# Altium footprint library Gastroscopy-Tool.PcbLib: 10 footprints
Each footprint in its own frame and in the unit in brackets; x right, y up, seen from the top. Pads: shape width x height; smd on the part's side, far side on the other; paste and mask are expansions set on the pad; w line width, h text height; cw(c..) or ccw(c..) is an arc to the next point about the centre after c.
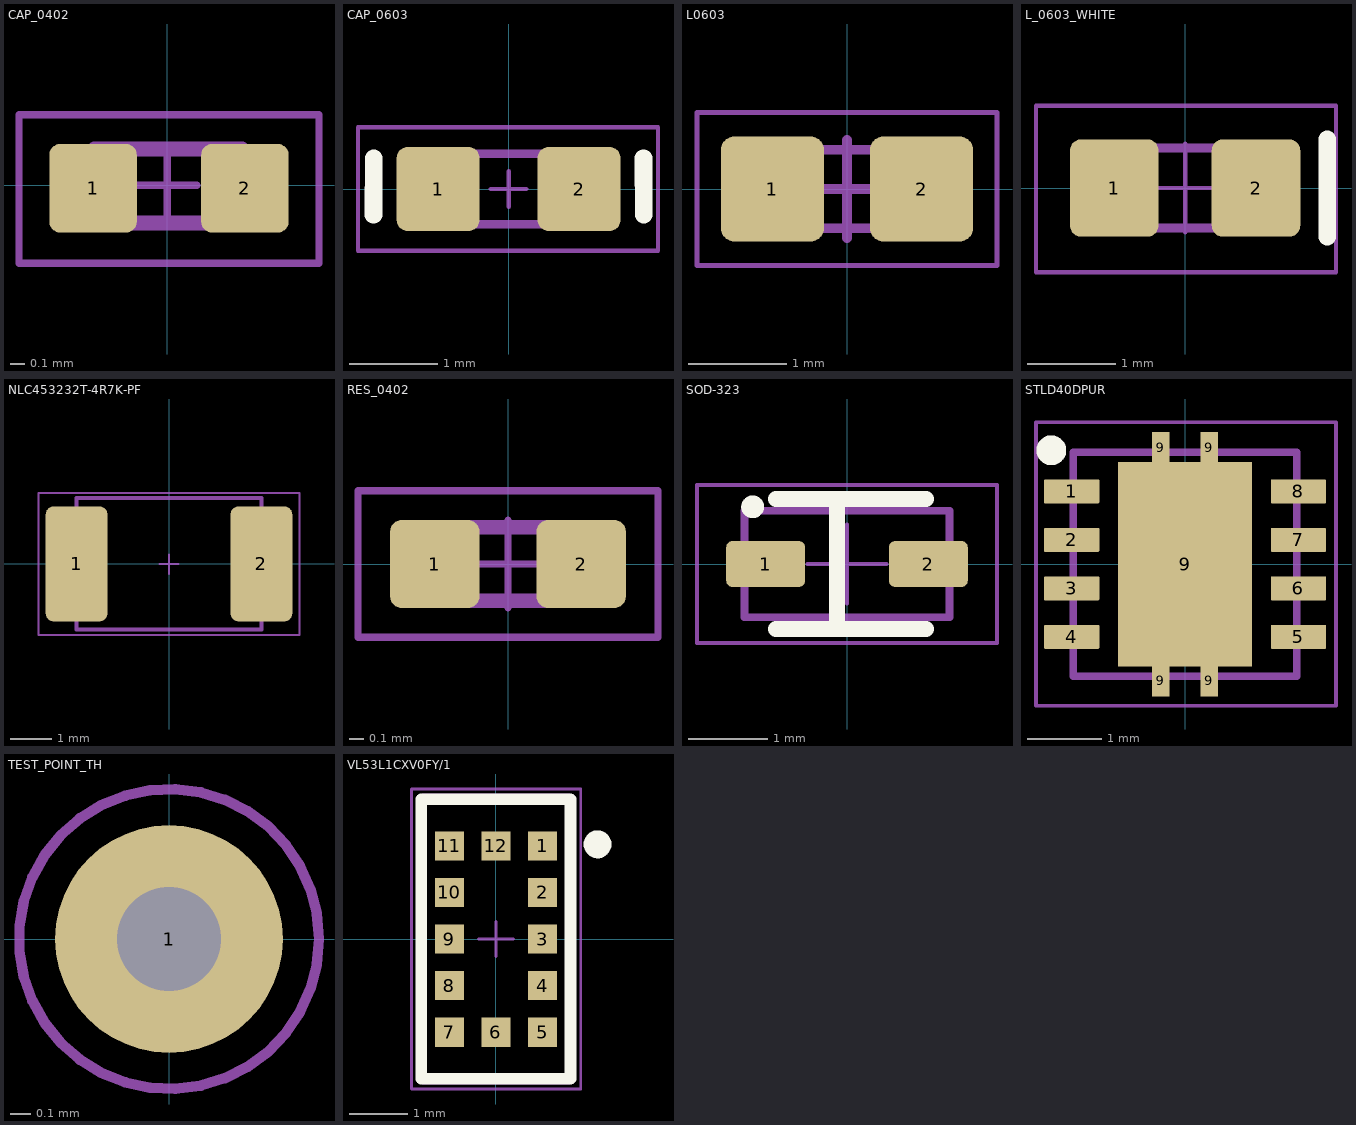
[diagram p0: the footprints below, top view; thin cyan lines are the x and y axes]

## CAP_0402 [mm]
pads (2):
  rrect25% 0.59x0.6 smd: 1(-0.5,-0.02) 2(0.525,-0.02)
Mechanical 13:
  lines w0.1: -0.49,-0.254 -0.49,0.246 0.506,0.246 0.506,-0.254 -0.49,-0.254
Mechanical 15:
  lines w0.05: -0.2,0 0.2,0 ; 0,-0.2 0,0.2 ; -1,-0.525 1.025,-0.525 1.025,0.475 -1,0.475 -1,-0.525
3D body "User Library-C0402-1.step": height 0.48, standoff -0.01, extent -0.49,-0.254 0.506,0.246

## CAP_0603 [mm] "Generic 0603 capacitor, IPC"
height 1
pads (2):
  rrect25% 0.94x0.95 smd: 1(-0.8,0) 2(0.8,0)
Top Overlay:
  lines w0.2: -1.534,-0.291 -1.532,0.351 ; 1.532,0.351 1.534,-0.291
Mechanical 13:
  lines w0.1: -0.8,-0.4 -0.8,0.4 0.8,0.4 0.8,-0.4 -0.8,-0.4
Mechanical 15:
  lines w0.05: -0.2,0 0.2,0 ; 0,-0.2 0,0.2 ; -1.709,-0.7 1.696,-0.7 1.696,0.7 -1.709,0.7 -1.709,-0.7
3D body "CAPC0603.STEP": height 0.9, standoff 0, extent -0.8,-0.4 0.8,0.4

## L0603 [mm]
height 0.8
pads (2):
  rrect25% 1.05x1.07 smd paste-5: 1(-0.76,0) 2(0.76,0)
Top Paste:
  region: 0.235,-0.405 0.445,0 0.235,0.405 0.235,0.431 0.255,0.479 0.291,0.515 0.339,0.535 0.365,0.535 1.155,0.535 1.181,0.535 1.229,0.515 1.265,0.479 1.285,0.431 1.285,0.405 1.285,-0.405 1.285,-0.431 1.265,-0.479 1.229,-0.515 1.181,-0.535 1.155,-0.535 0.365,-0.535 0.339,-0.535 0.291,-0.515 0.255,-0.479 0.235,-0.431
  region: -0.235,-0.405 -0.445,0 -0.235,0.405 -0.235,0.431 -0.255,0.479 -0.291,0.515 -0.339,0.535 -0.365,0.535 -1.155,0.535 -1.181,0.535 -1.229,0.515 -1.265,0.479 -1.285,0.431 -1.285,0.405 -1.285,-0.405 -1.285,-0.431 -1.265,-0.479 -1.229,-0.515 -1.181,-0.535 -1.155,-0.535 -0.365,-0.535 -0.339,-0.535 -0.291,-0.515 -0.255,-0.479 -0.235,-0.431
Mechanical 13:
  lines w0.1: -0.8,-0.4 -0.8,0.4 0.8,0.4 0.8,-0.4 -0.8,-0.4
Mechanical 15:
  lines w0.05: -1.53,-0.78 1.53,-0.78 1.53,0.78 -1.53,0.78 -1.53,-0.78
  lines w0.1: -0.5,0 0.5,0 ; 0,-0.5 0,0.5
3D body "User Library-FB_1608.STEP": height 0.8, standoff 0, extent -0.8,-0.4 0.8,0.4

## L_0603_WHITE [mm]
height 1.1
pads (2):
  rrect25% 1x1.1 smd: 1(-0.8,0) 2(0.8,0)
Top Overlay:
  lines w0.2: 1.603,-0.55 1.603,0.55
Mechanical 13:
  lines w0.1: -0.859,-0.45 0.831,-0.45 0.831,0.452 -0.859,0.452 -0.859,-0.45
Mechanical 15:
  lines w0.05: -0.5,0 0.5,0 ; 0,-0.5 0,0.5 ; -1.683,-0.95 1.703,-0.95 1.703,0.927 -1.683,0.927 -1.683,-0.95
3D body "User Library-LED_0603_WS.STEP": height 0.6, standoff 0, extent -0.8,-0.4 0.8,0.4

## NLC453232T-4R7K-PF [mm]
height 1.4
pads (2):
  rrect25% 1.5x2.8 smd: 1(-2.25,0) 2(2.25,0)
Mechanical 13:
  lines w0.1: -2.25,-1.6 -2.25,1.6 2.25,1.6 2.25,-1.6 -2.25,-1.6
Mechanical 15:
  lines w0.05: -0.225,0 0.225,0 ; 0,-0.25 0,0.225 ; -3.174,-1.725 0.413,-1.725 3.176,-1.725 3.176,1.72 -3.174,1.72 -3.174,-1.725
3D body "NLC453232T-4R7K-PF.STEP": height 3.4, standoff 0, extent -2.25,-1.6 2.25,1.6

## RES_0402 [mm]
height 0.45
pads (2):
  rrect25% 0.61x0.6 smd: 1(-0.5,0) 2(0.5,0)
Mechanical 13:
  lines w0.1: -0.55,-0.25 0.45,-0.25 0.45,0.25 -0.55,0.25 -0.55,-0.25
Mechanical 15:
  lines w0.05: -0.3,0 0.3,0 ; 0,-0.3 0,0.3 ; -1.025,-0.5 -1.025,0.5 1.025,0.5 1.025,-0.5 -1.025,-0.5
3D body "User Library-R_0402.step": height 0.35, standoff 0, extent -0.55,-0.25 0.45,0.25

## SOD-323 [mm]
height 0.7
pads (2):
  rrect25% 1x0.58 smd mask+0.05: 1(-1.03,0) 2(1.03,0)
Top Overlay:
  lines w0.15: -1.125,0.725 cw(c-1.195,0.725) -1.125,0.732
  lines w0.2: -0.9,-0.825 1,-0.825 ; -0.9,0.825 1,0.825 ; -0.125,-0.8 -0.125,0.825
Mechanical 13:
  lines w0.1: -1.3,-0.675 1.3,-0.675 1.3,0.675 -1.3,0.675 -1.3,-0.675
Mechanical 15:
  lines w0.05: -0.5,0 0.5,0 ; 0,-0.5 0,0.5 ; -1.9,-1 1.9,-1 1.9,1 -1.9,1 -1.9,-1
3D body "User Library-SOD323-1.step": height 1.1, standoff 0, extent -1.3,-0.675 1.3,0.675

## STLD40DPUR [mm]
height 1.75
pads (13):
  rrect8% 0.74x0.32 smd mask+0.05: 1(-1.52,0.975) 2(-1.52,0.325) 3(-1.52,-0.325) 4(-1.52,-0.975) 5(1.52,-0.975) 6(1.52,-0.325) 7(1.52,0.325) 8(1.52,0.975)
  rect 0.23x0.43 smd mask+0.05: 9(-0.325,-1.56) 9(-0.325,1.56) 9(0.325,-1.56) 9(0.325,1.56)
  rect 1.8x2.74 smd paste-2 mask+0.05: 9(0,0)
Top Overlay:
  circle w0.2: c-1.793,1.526 r0.1
Top Paste:
  region: 0.735,-1.106 0.105,-1.106 0.105,-0.105 0.735,-0.105
  region: -0.105,-1.105 -0.735,-1.105 -0.735,-0.105 -0.105,-0.105
  region: 0.735,0.105 0.105,0.105 0.105,1.105 0.735,1.105
  region: -0.105,0.105 -0.735,0.105 -0.735,1.105 -0.105,1.105
Mechanical 13:
  lines w0.1: -1.5,-1.5 1.5,-1.5 1.5,1.5 -1.5,1.5 -1.5,-1.5
Mechanical 15:
  lines w0.05: -0.4,0 0.4,0 ; 0,-0.4 0,0.4 ; -1.999,-1.899 -1.999,1.903 2.024,1.903 2.024,-1.899 -1.999,-1.899
3D body "TPS61042DRBT.STEP": height 1, standoff 0, extent -1.5,-1.5 1.5,1.5

## TEST_POINT_TH [mm] "TH test point, 100 mil pad, 60 mil hole"
pads (1):
  round 1.1 hole 0.5: 1(0,0)
Mechanical 15:
  circle w0.05: c0,0 r0.725
  lines w0.05: -0.475,0 0.475,0 ; 0,-0.475 0,0.475

## VL53L1CXV0FY/1 [mm]
height 2.09
pads (12):
  rect 0.5x0.5 smd mask+0.06: 1(0.8,1.6) 2(0.8,0.8) 3(0.8,0) 4(0.8,-0.8) 5(0.8,-1.6) 6(0,-1.6) 7(-0.8,-1.6) 8(-0.8,-0.8) 9(-0.8,0) 10(-0.8,0.8) 11(-0.8,1.6) 12(0,1.6)
Top Overlay:
  circle w0.24: c1.746,1.627 r0.12
  lines w0.2: -1.28,-2.399 1.28,-2.399 1.28,2.398 -1.28,2.398 -1.28,-2.399
Mechanical 13:
  lines w0.1: -1.25,-2.45 -1.25,2.45 1.25,2.45 1.25,-2.45 -1.25,-2.45
Mechanical 15:
  lines w0.05: -0.3,0 0.3,0 ; 0,-0.3 0,0.3 ; -1.451,-2.574 -1.451,2.576 1.456,2.576 1.456,-2.574 -1.451,-2.574
3D body "1.STEP": height 1.6, standoff 0, extent -1.25,-2.45 1.25,2.45